# Altium footprint library Connectors.PcbLib: 20 footprints (part 2 of 2)
Each footprint in its own frame and in the unit in brackets; x right, y up, seen from the top. Pads: shape width x height; smd on the part's side, far side on the other; paste and mask are expansions set on the pad; w line width, h text height; cw(c..) or ccw(c..) is an arc to the next point about the centre after c.
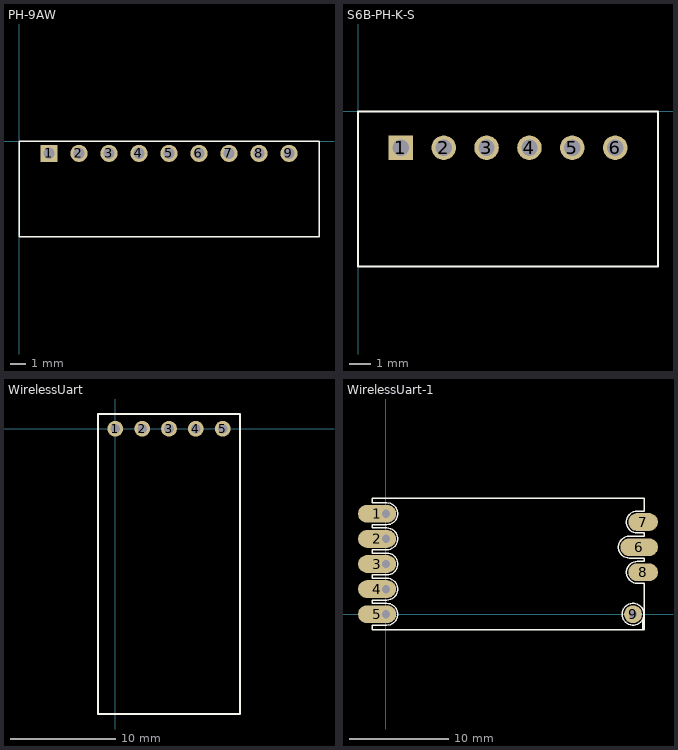
[diagram p1: the footprints below, top view; thin cyan lines are the x and y axes]

## PH-9AW [mil]
pads (9):
  rect 45x45 hole 30: 1(78.74,-31.5)
  round 45 hole 30: 2(157.48,-31.5) 3(236.22,-31.5) 4(314.96,-31.5) 5(393.7,-31.5) 6(472.44,-31.5) 7(551.18,-31.5) 8(629.92,-31.5) 9(708.66,-31.5)
Top Overlay:
  lines w3.94: 0,-250 0,0 787.4,0 787.4,-250 0,-250

## S6B-PH-K-S [mil]
pads (6):
  rect 45x45 hole 30: 1(78.74,-66.5)
  round 45 hole 30: 2(157.48,-66.5) 3(236.22,-66.5) 4(314.96,-66.5) 5(393.7,-66.5) 6(472.44,-66.5)
Top Overlay:
  lines w3.94: 0,-285 0,0 551.18,0 551.18,-285 0,-285

## WirelessUart [mm]
pads (5):
  round 1.5 hole 0.9: 1(0,0) 2(2.54,0) 3(5.08,0) 4(7.62,0) 5(10.16,0)
Top Overlay:
  lines w0.2: -1.651,-27 -1.651,1.397 11.811,1.397 11.811,-27 -1.651,-27

## WirelessUart-1 [mm]
pads (9):
  oval 3.85x1.8 smd: 1(-0.9,10.16) 2(-0.9,7.62) 3(-0.9,5.08) 4(-0.9,2.54) 5(-0.9,0)
  oval 3.8x1.8 smd: 6(25.6,6.78)
  oval 3x1.8 smd: 7(26,9.32) 8(26,4.24)
  round 1.8 smd: 9(24.976,0)
via 0,0 diameter 1.575 hole 0.838
via 0,2.54 diameter 1.575 hole 0.838
via 0,5.08 diameter 1.575 hole 0.838
via 0,7.62 diameter 1.575 hole 0.838
via 0,10.16 diameter 1.575 hole 0.838
via 24.976,0 diameter 1.575 hole 0.838
Top Overlay:
  circle w0.152: c24.976,0 r1.1
  rectangle: 25.9,-1.545 26.1,-0.47
  lines w0.152: -1.4,-1.545 -1.4,-1.1 0.1,-1.1 ccw(c0.1,0) 0.1,1.1 -1.4,1.1 -1.4,1.44 0.1,1.44 ccw(c0.1,2.54) 0.1,3.64 -1.4,3.64 -1.4,3.98 0.1,3.98 ccw(c0.1,5.08) 0.1,6.18 -1.4,6.18 -1.4,6.52 0.1,6.52 ccw(c0.1,7.62) 0.1,8.72 -1.4,8.72 -1.4,9.06 0.1,9.06 ccw(c0.1,10.16) 0.1,11.26 -1.4,11.26 -1.4,11.705 26.1,11.705 26.1,10.42 25.4,10.42 ccw(c25.4,9.32) 25.4,8.22 26.1,8.22 26.1,7.88 24.6,7.88 ccw(c24.6,6.78) 24.6,5.68 26.1,5.68 26.1,5.34 25.4,5.34 ccw(c25.4,4.24) 25.4,3.14 26.1,3.14 26.1,-1.545 -1.4,-1.545